# EAGLE library part TRACKUINO_HX1 (library Tracker)
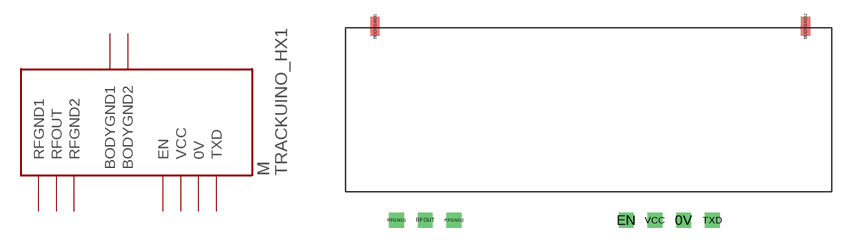
[diagram p3: symbol with the pads of TRACKUINO_HX1; footprint TRACKUINO_HX1]

Designator prefix M

## TRACKUINO_HX1  [TRACKUINO_HX1]
0V  0V
BODYGND1  BODYGND1
BODYGND2  BODYGND2
EN  EN
RFGND1  RFGND1
RFGND2  RFGND2
RFOUT  RFOUT
TXD  TXD
VCC  VCC

## Footprint TRACKUINO_HX1 (pad centres in mm)
drill 0.8 square: 0V 25.4,-8.89; EN 20.32,-8.89; RFGND1 0,-8.89; RFGND2 5.08,-8.89; RFOUT 2.54,-8.89; TXD 27.94,-8.89; VCC 22.86,-8.89
smd 0.813 x 1.676: BODYGND1 -1.905,8.255; BODYGND2 36.195,8.255